# EAGLE library part WRAPTHOR_2022-1 (library BlueGiga)
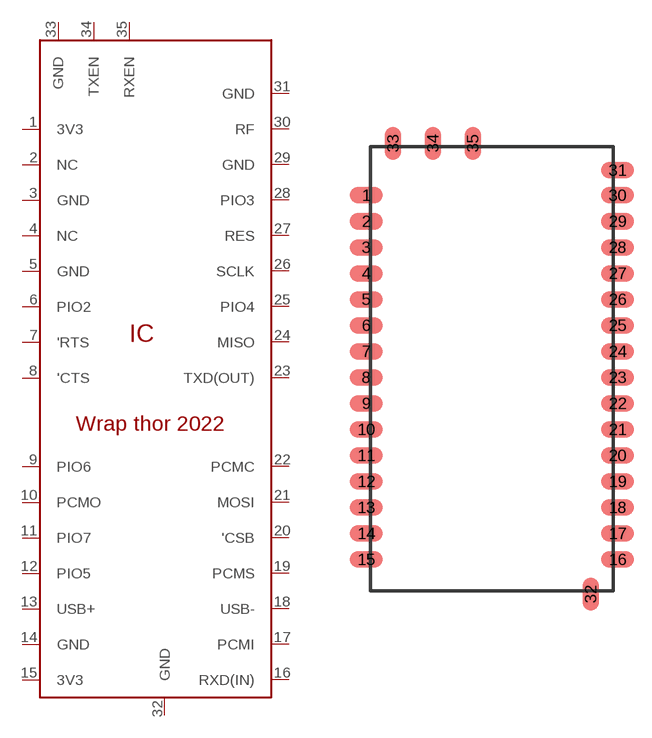
[diagram p0: symbol with the pads of WRAPTHOR_2022-1; footprint WRAPTHOR_2022-1]

Designator prefix IC

## WRAPTHOR_2022-1  [WRAPTHOR_2022-1]
1  3V3
2  NC
3  GND
4  NC
5  GND
6  PIO2
7  'RTS
8  'CTS
9  PIO6
10  PCMO
11  PIO7
12  PIO5
13  USB+
14  GND
15  3V3
16  RXD(IN)
17  PCMI
18  USB-
19  PCMS
20  'CSB
21  MOSI
22  PCMC
23  TXD(OUT)
24  MISO
25  PIO4
26  SCLK
27  RES
28  PIO3
29  GND
30  RF
31  GND
32  GND
33  GND
34  TXEN
35  RXEN

## Footprint WRAPTHOR_2022-1 (pad centres in mm)
smd 1.93 x 0.965: 1 -10.5,9; 2 -10.5,7.5; 3 -10.5,6; 4 -10.5,4.5; 5 -10.5,3; 6 -10.5,1.5; 7 -10.5,0; 8 -10.5,-1.5; 9 -10.5,-3; 10 -10.5,-4.5; 11 -10.5,-6; 12 -10.5,-7.5; 13 -10.5,-9; 14 -10.5,-10.5; 15 -10.5,-12; 16 4,-12; 17 4,-10.5; 18 4,-9; 19 4,-7.5; 20 4,-6; 21 4,-4.5; 22 4,-3; 23 4,-1.5; 24 4,0; 25 4,1.5; 26 4,3; 27 4,4.5; 28 4,6; 29 4,7.5; 30 4,9; 31 4,10.45
smd 0.965 x 1.93: 32 2.45,-14; 33 -8.95,12; 34 -6.65,12; 35 -4.35,12